# EAGLE library part PINHD-1X10 (library PinHD1X2)
PIN HEADER
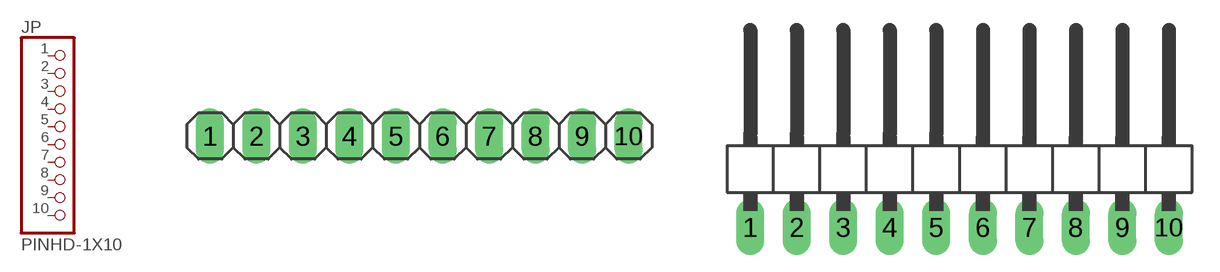
[diagram p11: symbol with the pads of 1X10; footprints 1X10, 1X10/90]

Designator prefix JP

## PINHD-1X10 (CATEGORY: CONNECTOR; SUB-CATEGORY: PIN-HEADER)  [1X10]
1  1  pas
2  2  pas
3  3  pas
4  4  pas
5  5  pas
6  6  pas
7  7  pas
8  8  pas
9  9  pas
10  10  pas

## PINHD-1X10/90 (CATEGORY: CONNECTOR; SUB-CATEGORY: PIN-HEADER)  [1X10/90]
Pads as for 1X10

## Footprint 1X10 (pad centres in mm)
PIN HEADER
drill 1.016 long: 1 -11.43,0; 2 -8.89,0; 3 -6.35,0; 4 -3.81,0; 5 -1.27,0; 6 1.27,0; 7 3.81,0; 8 6.35,0; 9 8.89,0; 10 11.43,0

## Footprint 1X10/90 (pad centres in mm)
PIN HEADER
drill 1.016 long: 1 -11.43,-3.81; 2 -8.89,-3.81; 3 -6.35,-3.81; 4 -3.81,-3.81; 5 -1.27,-3.81; 6 1.27,-3.81; 7 3.81,-3.81; 8 6.35,-3.81; 9 8.89,-3.81; 10 11.43,-3.81